# EAGLE library part RPM973-H11E2A (library GTA04b7)
ROHM IrDA 1.4 SIR/MIR/FIR transceiver
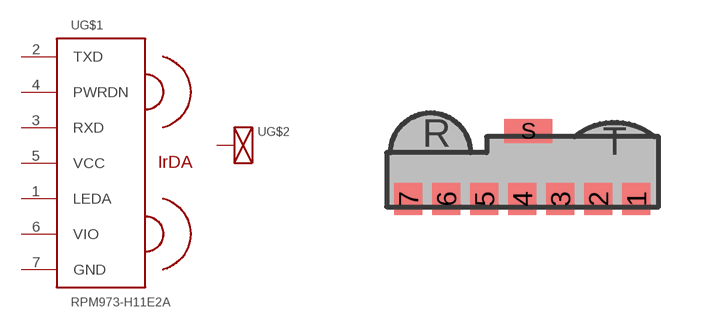
[diagram p35: symbol with the pads of RPM973-H11E2A; footprint RPM973-H11E2A]

Designator prefix -; gates G$1=IRDA-TRX-3 G$2=SHIELD

## RPM973-H11E2A  [RPM973-H11E2A]
1  G$1:LEDA  pwr
2  G$1:TXD  in
3  G$1:RXD  out
4  G$1:PWRDN  in
5  G$1:VCC  pwr
6  G$1:VIO  pwr
7  G$1:GND  pwr
S  G$2:SHIELD  pwr

## Footprint RPM973-H11E2A (pad centres in mm)
ROHM RPM973 IrDA module
smd 0.7 x 0.8: 1 2.85,-0.8; 2 1.9,-0.8; 3 0.95,-0.8; 4 0,-0.8; 5 -0.95,-0.8; 6 -1.9,-0.8; 7 -2.85,-0.8
smd 1.2 x 0.6: S 0.15,0.9